# Altium integrated library PCB-SCREW-TERMINAL-M4.IntLib: 1 symbol
Pins are listed as number, name and electrical type; pins without a type are passive.

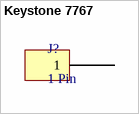
[diagram p0: symbol Keystone 7767]

## Keystone 7767
designator J?, comment 1 Pin
PCB Soldering Terminal Riveting Nut Welding Terminals 8*8*6.8MM M4 or M3
footprint Keystone 7767 (Riveting Nut Terminal 8*8*6.8MM M4)
pins: 1